# Altium footprint library SHDRRA2W80P0X350_1X2_840X920X720P.PcbLib: 1 footprints
Each footprint in its own frame and in the unit in brackets; x right, y up, seen from the top. Pads: shape width x height; smd on the part's side, far side on the other; paste and mask are expansions set on the pad; w line width, h text height; cw(c..) or ccw(c..) is an arc to the next point about the centre after c.
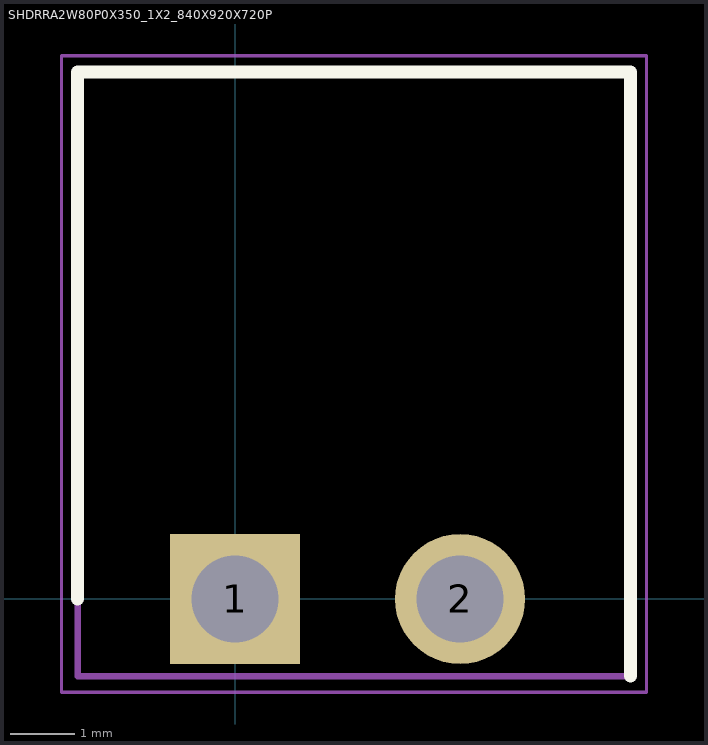
[diagram p0: the footprint, top view; thin cyan lines are the x and y axes]

## SHDRRA2W80P0X350_1X2_840X920X720P [mm]
pads (2):
  rect 2.025x2.025 / inner round 2.025 / far side rect 2.025x2.025 hole 1.35: 1(0,0)
  round 2.025 hole 1.35: 2(3.5,0)
Top Overlay:
  lines w0.2: -2.45,0 -2.45,8.2 6.15,8.2 6.15,-1.2
Mechanical 15:
  lines w0.1: -2.45,-1.2 6.15,-1.2 6.15,8.2 -2.45,8.2 -2.45,-1.2
Mechanical 20:
  lines w0.05: -2.7,-1.45 -2.7,8.45 6.4,8.45 6.4,-1.45 -2.7,-1.45
3D body "TB2_35.step": height 7.7, standoff -3.1, extent -2.422,-1.171 5.978,27.532